# Altium footprint library TQFN-56  (7x7).PcbLib: 1 footprints
Each footprint in its own frame and in the unit in brackets; x right, y up, seen from the top. Pads: shape width x height; smd on the part's side, far side on the other; paste and mask are expansions set on the pad; w line width, h text height; cw(c..) or ccw(c..) is an arc to the next point about the centre after c.
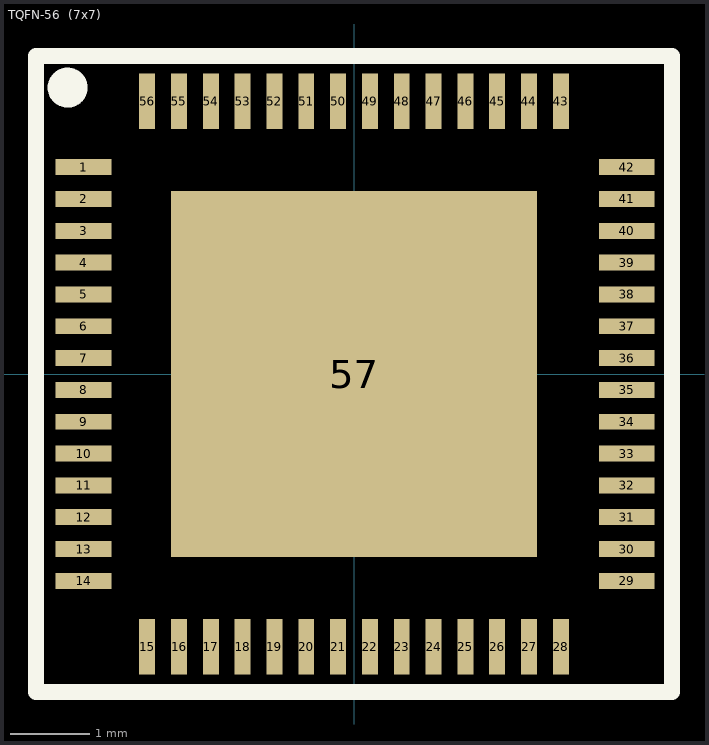
[diagram p0: the footprint, top view; thin cyan lines are the x and y axes]

## TQFN-56  (7x7) [mm]
pads (57):
  rect 0.7x0.2 smd: 1(-3.4,2.6) 2(-3.4,2.2) 3(-3.4,1.8) 4(-3.4,1.4) 5(-3.4,1) 6(-3.4,0.6) 7(-3.4,0.2) 8(-3.4,-0.2) 9(-3.4,-0.6) 10(-3.4,-1) 11(-3.4,-1.4) 12(-3.4,-1.8) 13(-3.4,-2.2) 14(-3.4,-2.6) 29(3.43,-2.6) 30(3.43,-2.2) 31(3.43,-1.8) 32(3.43,-1.4) 33(3.43,-1) 34(3.43,-0.6) 35(3.43,-0.2) 36(3.43,0.2) 37(3.43,0.6) 38(3.43,1) 39(3.43,1.4) 40(3.43,1.8) 41(3.43,2.2) 42(3.43,2.6)
  rect 0.2x0.7 smd: 15(-2.6,-3.43) 16(-2.2,-3.43) 17(-1.8,-3.43) 18(-1.4,-3.43) 19(-1,-3.43) 20(-0.6,-3.43) 21(-0.2,-3.43) 22(0.2,-3.43) 23(0.6,-3.43) 24(1,-3.43) 25(1.4,-3.43) 26(1.8,-3.43) 27(2.2,-3.43) 28(2.6,-3.43) 43(2.6,3.43) 44(2.2,3.43) 45(1.8,3.43) 46(1.4,3.43) 47(1,3.43) 48(0.6,3.43) 49(0.2,3.43) 50(-0.2,3.43) 51(-0.6,3.43) 52(-1,3.43) 53(-1.4,3.43) 54(-1.8,3.43) 55(-2.2,3.43) 56(-2.6,3.43)
  rect 4.6x4.6 smd: 57(0,0)
Top Overlay:
  circle w0.254: c-3.6,3.6 r0.125
  lines w0.2: -4,-4 -4,4 4,4 4,-4 -4,-4
Top Assembly:
  lines w0.1: -4,-4 -4,4 4,4 4,-4 -4,-4
  text "'.Designator'" at -1,-0.3 h0.7
3D body: height 0.75, standoff 0, extent -3.5,-3.5 3.5,3.5